# Altium footprint library FMC-USB-PHY-BOARD_r0.2.PcbLib: 19 footprints (part 2 of 2)
Each footprint in its own frame and in the unit in brackets; x right, y up, seen from the top. Pads: shape width x height; smd on the part's side, far side on the other; paste and mask are expansions set on the pad; w line width, h text height; cw(c..) or ccw(c..) is an arc to the next point about the centre after c.
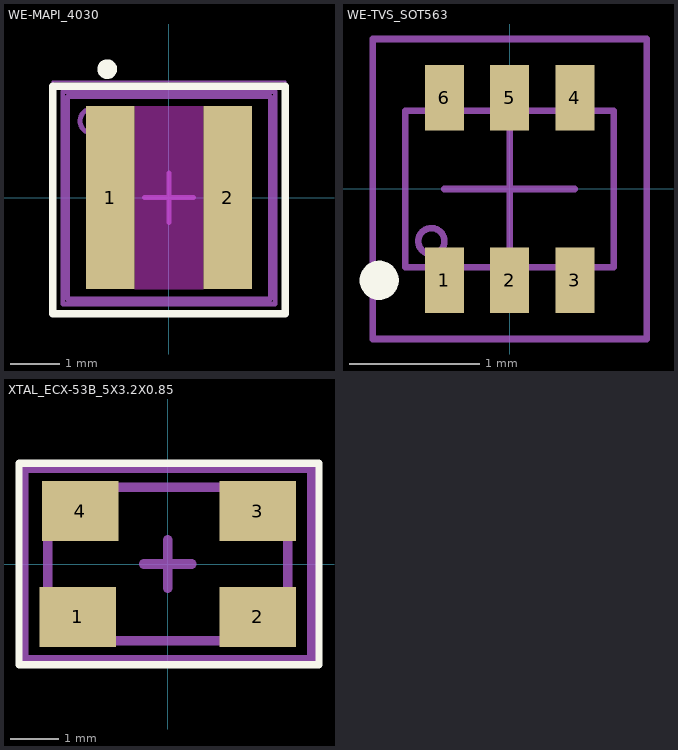
[diagram p1: the footprints below, top view; thin cyan lines are the x and y axes]

## WE-MAPI_4030 [mm] "SMT Shielded Power Inductor, body 4.10 x 4.10 mm"
height 3.1
pads (2):
  rect 0.98x3.7 smd: 1(-1.185,0) 2(1.185,0)
Top Layer keep-out:
  region: -0.695,1.85 0.695,1.85 0.695,-1.85 -0.695,-1.85
Top Overlay:
  circle w0.2: c-1.25,2.6 r0.1
  lines w0.153: -2.35,-2.35 2.35,-2.35 2.35,2.25 -2.35,2.25 -2.35,-2.35
Top 3D Body:
  lines w0.1: -2.05,-2.05 2.05,-2.05 2.05,2.05 -2.05,2.05 -2.05,-2.05
Top Courtyard:
  lines w0.05: -2.35,-2.35 2.35,-2.35 2.35,2.35 -2.35,2.35 -2.35,-2.35
  lines w0.1: -0.5,0 0.5,0 ; 0,-0.5 0,0.5
Top Assembly:
  circle w0.1: c-1.55,1.55 r0.25
  lines w0.1: -2.15,-2.15 2.15,-2.15 2.15,2.15 -2.15,2.15 -2.15,-2.15
  text ".Designator" at -3.647,-0.357 h1
3D body "IndMAPI_4030_74438357xxx.stp": height 3.1, standoff 0, extent -2.05,-2.05 2.05,2.05

## WE-TVS_SOT563 [mm] "TVS Diode, package SOT563"
height 0.6
pads (6):
  rect 0.3x0.5 smd: 1(-0.5,-0.7) 2(0,-0.7) 3(0.5,-0.7) 4(0.5,0.7) 5(0,0.7) 6(-0.5,0.7)
Top Overlay:
  circle w0.15: c-1,-0.7 r0.075
Top Courtyard:
  lines w0.05: -0.5,0 0.5,0 ; 0,-0.5 0,0.5 ; -1.05,-1.15 1.05,-1.15 1.05,1.15 -1.05,1.15 -1.05,-1.15
Top Assembly:
  circle w0.05: c-0.6,-0.4 r0.1
  lines w0.05: -0.61,-0.6 -0.61,-0.8 -0.39,-0.8 -0.39,-0.6 ; -0.61,0.6 -0.61,0.8 -0.39,0.8 -0.39,0.6 ; -0.11,-0.6 -0.11,-0.8 0.11,-0.8 0.11,-0.6 ; -0.11,0.6 -0.11,0.8 0.11,0.8 0.11,0.6 ; 0.39,-0.6 0.39,-0.8 0.61,-0.8 0.61,-0.6 ; 0.39,0.6 0.39,0.8 0.61,0.8 0.61,0.6 ; -0.8,-0.6 0.8,-0.6 0.8,0.6 -0.8,0.6 -0.8,-0.6
  text ".Designator" at -2.499,-0.167 h0.5
3D body "STEP-WE-TVS-HS-SOT563-rev1.stp": height 0.54, standoff -0.01, extent -0.8,-0.8 0.8,0.8

## XTAL_ECX-53B_5X3.2X0.85 [mm] "The ECX-53B is a miniature SMD Crystal with a 3.2 x 5 mm footprint. This package is ideal for todays compact wireless applications where board space is critical."
pads (4):
  rect 1.6x1.25 smd: 1(-1.875,-1.1) 2(1.875,-1.1) 3(1.875,1.1) 4(-1.825,1.1)
Top Overlay:
  lines w0.153: -3.1,-2.1 3.15,-2.1 3.15,2.1 -3.1,2.1 -3.1,-2.1
Top 3D Body:
  lines w0.2: -2.5,-1.6 2.5,-1.6 2.5,1.6 -2.5,1.6 -2.5,-1.6
Top Courtyard:
  lines w0.2: -0.5,0 0.5,0 ; 0,-0.5 0,0.5 ; -3,-2 -3,2 3,2 3,-2 -3,-2
Top Assembly:
  circle w0.4: c-1.85,-1.05 r0.071
  lines w0.2: -2.5,-1.6 2.5,-1.6 2.5,1.6 -2.5,1.6 -2.5,-1.6
  text ".Designator" at 4.998,0.333 h1
3D body "ECS-260-18-30B-AGM-TR.STEP": height 0.85, standoff 0, extent -2.5,-1.6 2.5,1.6